# Altium footprint library DS_connectors.PcbLib: 5 footprints
Each footprint in its own frame and in the unit in brackets; x right, y up, seen from the top. Pads: shape width x height; smd on the part's side, far side on the other; paste and mask are expansions set on the pad; w line width, h text height; cw(c..) or ccw(c..) is an arc to the next point about the centre after c.
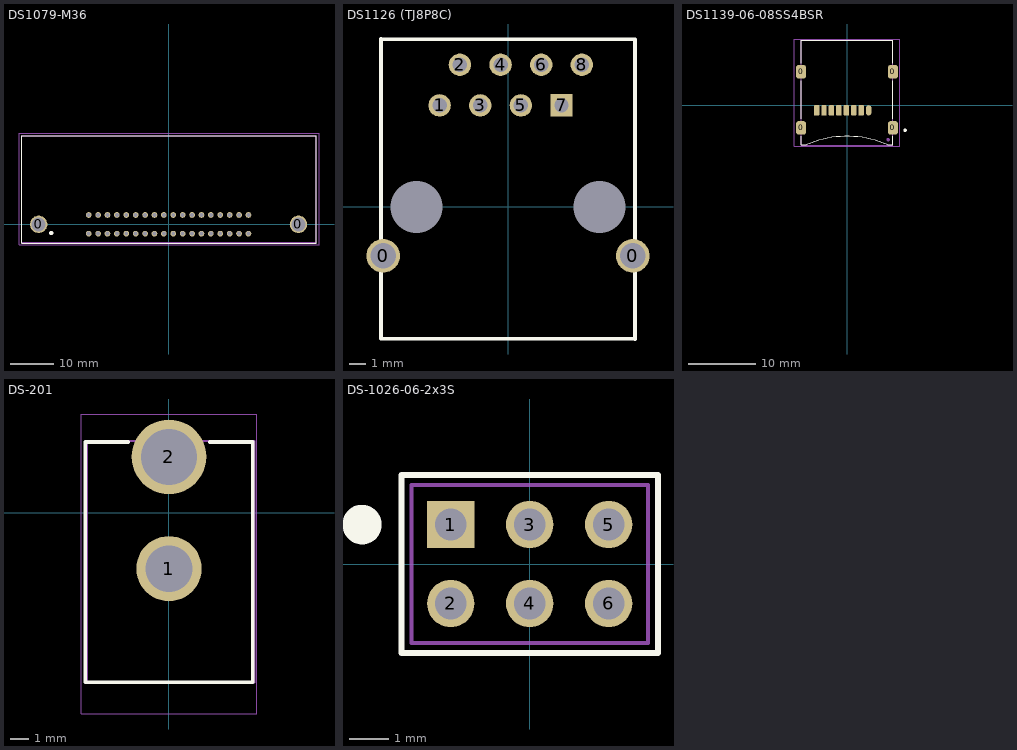
[diagram p0: the footprints below, top view; thin cyan lines are the x and y axes]

## DS1079-M36 [mm]
pads (38):
  round 4 hole 3.2: 0(-29.85,0) 0(29.85,0)
  round 1.3 hole 0.9: 1(-18.36,-2.145) 2(-18.36,2.145) 3(-16.2,-2.145) 4(-16.2,2.145) 5(-14.04,-2.145) 6(-14.04,2.145) 7(-11.88,-2.145) 8(-11.88,2.145) 9(-9.72,-2.145) 10(-9.72,2.145) 11(-7.56,-2.145) 12(-7.56,2.145) 13(-5.4,-2.145) 14(-5.4,2.145) 15(-3.24,-2.145) 16(-3.24,2.145) 17(-1.08,-2.145) 18(-1.08,2.145) 19(1.08,-2.145) 20(1.08,2.145) 21(3.24,-2.145) 22(3.24,2.145) 23(5.4,-2.145) 24(5.4,2.145) 25(7.56,-2.145) 26(7.56,2.145) 27(9.72,-2.145) 28(9.72,2.145) 29(11.88,-2.145) 30(11.88,2.145) 31(14.04,-2.145) 32(14.04,2.145) 33(16.2,-2.145) 34(16.2,2.145) 35(18.36,-2.145) 36(18.36,2.145)
Top Overlay:
  circle w0.8: c-27,-2 r0.1
  lines w0.254: -33.743,-4.315 33.957,-4.315 33.957,20.385 -33.743,20.385 -33.743,-4.315
Top Assembly:
  circle w0.4: c-27,-2 r0.2
  lines w0.254: -33.7,-4.1 34,-4.1 34,20.3 -33.7,20.3 -33.7,-4.1
  text ".Designator" at -4.998,-0.333 h1
Top Courtyard (Mech15):
  lines w0.05: -34.375,20.9 -34.375,-4.675 34.575,-4.675 34.575,20.907 -34.375,20.907
3D body "Centronic 36 pin NEW V2.STEP": height 16.6, standoff -2.6, extent -33.725,-4.175 33.875,20.275

## DS1126 (TJ8P8C) [mm] "Разъем на плату угловой"
height 12.55
pads (12):
  round 2.1 hole 1.6: 0(-7.8,-3.05) 0(7.8,-3.05)
  round 0 hole 3.25 unplated: 0(-5.715,0) 0(5.715,0)
  round 1.4 hole 0.9: 1(-4.275,6.35) 2(-3.005,8.89) 3(-1.735,6.35) 4(-0.465,8.89) 5(0.805,6.35) 6(2.075,8.89) 8(4.615,8.89)
  rect 1.4x1.4 hole 0.9: 7(3.345,6.35)
Top Overlay:
  lines w0.254: -7.925,-8.225 7.925,-8.25 7.925,10.475 -7.925,10.5 -7.925,-8.225
Top Assembly:
  lines w0.1: -7.92,-8.23 -7.92,10.5 7.92,10.5 7.92,-8.23 -7.92,-8.23
  text ".Designator" at -4.998,-0.333 h1
Top Courtyard (Mech15):
  lines w0.05: -7.9,-8.225 7.92,-8.225 7.92,10.5 -7.9,10.5 -7.9,-8.225

## DS1139-06-08SS4BSR [mm]
height 2.25
pads (12):
  rrect50% 1.45x2 smd: 0(-6.8,-3.35) 0(-6.8,4.95) 0(6.8,-3.35) 0(6.8,4.95)
  oval 0.8x1.5 smd: 1(3.2,-0.75)
  rrect25% 0.8x1.5 smd: 2(2.1,-0.75) 3(1,-0.75) 4(-0.1,-0.75) 5(-1.2,-0.75) 6(-2.3,-0.75) 7(-3.4,-0.75) 8(-4.5,-0.75)
Top Overlay:
  circle w0.3: c8.6,-3.7 r0.1
  lines w0.15: -6.8,-4.6 -6.8,-5.85 -6,-5.85 cw(c0,-19.589) 6,-5.85 6.8,-5.85 6.8,-4.6 ; -6.8,-2 -6.8,3.6 ; -6.8,6.2 -6.8,9.6 6.8,9.6 6.8,6.2 ; 6.8,-2 6.8,3.6
Top Assembly:
  circle w0.3: c6.1,-5.1 r0.1
  lines w0.1: -6.8,-5.9 6.8,-5.9 6.8,9.6 -6.8,9.6 -6.8,-5.9
  text ".Designator" at -4.998,-0.333 h1
Top Courtyard (Mech15):
  lines w0.05: -7.8,-6.1 7.8,-6.1 7.8,9.8 -7.8,9.8 -7.8,-6.1

## DS-201 [mm]
height 11
pads (2):
  round 3.5 hole 2.5: 1(0,-3)
  round 4 hole 3: 2(0,3)
Top Overlay:
  lines w0.2: -2.2,3.8 -4.5,3.8 -4.5,-9.1 4.5,-9.1 4.5,3.8 2.2,3.8
Top Assembly:
  lines w0.1: -4.4,-9.1 4.6,-9.1 4.6,3.85 -4.4,3.85 -4.4,-9.1
  text ".Designator" at -4.998,-0.333 h1
Top Courtyard (Mech15):
  lines w0.05: -4.7,-10.8 4.7,-10.8 4.7,5.3 -4.7,5.3 -4.7,-10.8
3D body "pj-037a.stp": height 11, standoff -3.5, extent -4.4,-10.65 4.6,3.85

## DS-1026-06-2x3S [mm]
pads (6):
  rect 1.2x1.2 hole 0.8 mask-25.4: 1(-2,1)
  round 1.2 hole 0.8 mask-25.4: 2(-2,-1) 3(0,1) 4(0,-1) 5(2,1) 6(2,-1)
Top Overlay:
  circle w0.8: c-4.25,1 r0.1
  lines w0.15: -3.25,-2.25 3.25,-2.25 3.25,2.25 -3.25,2.25 -3.25,-2.25
Top Assembly:
  circle w0.4: c-2,1 r0.2
  lines w0.1: -3,-2 -3,2 3,2 3,-2 -3,-2
  text ".Designator" at -4.998,-0.333 h1
Top Courtyard (Mech15):
  lines w0.05: -3.25,-2.25 3.25,-2.25 3.25,2.25 -3.25,2.25 -3.25,-2.25
3D body "User Library-PBD2-2x3.STEP": height 4.75, standoff -2.25, extent -3,-2.05 3,2.05